# Altium footprint library 新主控制.PcbLib: 56 footprints (part 2 of 4)
Each footprint in its own frame and in the unit in brackets; x right, y up, seen from the top. Pads: shape width x height; smd on the part's side, far side on the other; paste and mask are expansions set on the pad; w line width, h text height; cw(c..) or ccw(c..) is an arc to the next point about the centre after c.
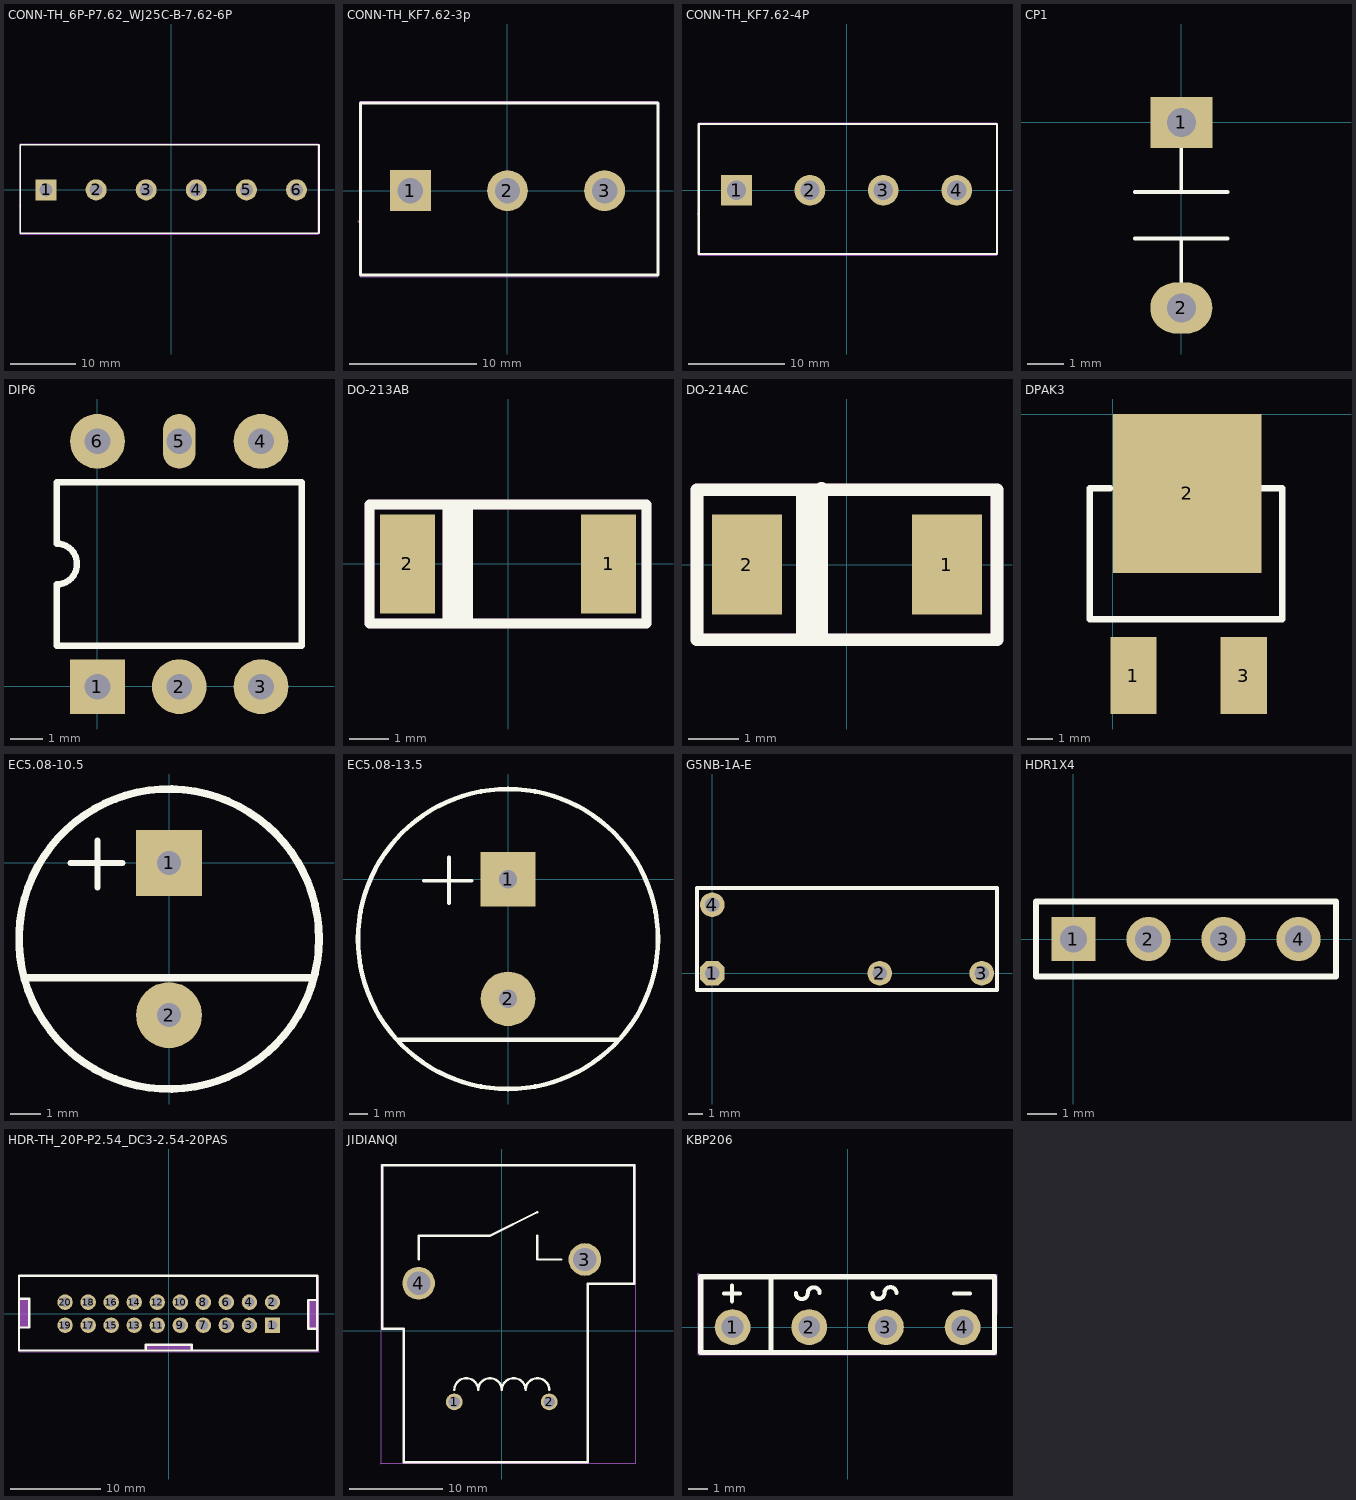
[diagram p1: the footprints below, top view; thin cyan lines are the x and y axes]

## CONN-TH_6P-P7.62_WJ25C-B-7.62-6P [mm]
height 0.7
pads (6):
  rect 3.21x3.2 hole 2 paste+0 mask+0.051: 1(-19.05,0)
  round 3.2 hole 2 paste+0 mask+0.051: 2(-11.43,0) 3(-3.81,0) 4(3.81,0) 5(11.43,0) 6(19.05,0)
Top Overlay:
  lines w0.254: -22.975,-6.623 22.479,-6.623 22.479,6.877 -22.975,6.877 -22.975,-6.623
Mechanical 15:
  drawing of 11 lines, arcs and shapes, not listed

## CONN-TH_KF7.62-3p [mm]
height 0.7
pads (3):
  rect 3.21x3.2 hole 2 paste+0 mask+0.051: 1(-7.62,0)
  round 3.2 hole 2 paste+0 mask+0.051: 2(0,0) 3(7.62,0)
Top Overlay:
  lines w0.254: -11.545,-6.623 11.811,-6.623 11.811,6.877 -11.545,6.877 -11.545,-6.623
Mechanical 15:
  region: -11.612,-2.432 -11.612,-2.407 -11.647,-2.372 -11.697,-2.372 -11.732,-2.407 -11.732,-2.432 -11.732,-2.457 -11.697,-2.492 -11.647,-2.492 -11.612,-2.457
  region: 8.52,0 8.52,0.118 8.459,0.347 8.34,0.553 8.173,0.72 7.967,0.839 7.739,0.9 7.502,0.9 7.273,0.839 7.067,0.72 6.9,0.553 6.781,0.347 6.72,0.118 6.72,0 6.72,-0.118 6.781,-0.347 6.9,-0.553 7.067,-0.72 7.273,-0.839 7.502,-0.9 7.739,-0.9 7.967,-0.839 8.173,-0.72 8.34,-0.553 8.459,-0.347 8.52,-0.118
  region: 0.9,0 0.9,0.118 0.839,0.347 0.72,0.553 0.553,0.72 0.347,0.839 0.119,0.9 -0.118,0.9 -0.347,0.839 -0.553,0.72 -0.72,0.553 -0.839,0.347 -0.9,0.118 -0.9,0 -0.9,-0.118 -0.839,-0.347 -0.72,-0.553 -0.553,-0.72 -0.347,-0.839 -0.118,-0.9 0.119,-0.9 0.347,-0.839 0.553,-0.72 0.72,-0.553 0.839,-0.347 0.9,-0.118
  region: -6.72,0 -6.72,0.118 -6.781,0.347 -6.9,0.553 -7.067,0.72 -7.273,0.839 -7.501,0.9 -7.738,0.9 -7.967,0.839 -8.173,0.72 -8.34,0.553 -8.459,0.347 -8.52,0.118 -8.52,0 -8.52,-0.118 -8.459,-0.347 -8.34,-0.553 -8.173,-0.72 -7.967,-0.839 -7.738,-0.9 -7.501,-0.9 -7.273,-0.839 -7.067,-0.72 -6.9,-0.553 -6.781,-0.347 -6.72,-0.118
  lines w0.051: -11.545,-6.75 -11.545,7.004 11.811,7.004 11.811,-6.75 -11.545,-6.75

## CONN-TH_KF7.62-4P [mm]
height 0.7
pads (4):
  rect 3.21x3.2 hole 2 paste+0 mask+0.051: 1(-11.43,0)
  round 3.2 hole 2 paste+0 mask+0.051: 2(-3.81,0) 3(3.81,0) 4(11.43,0)
Top Overlay:
  lines w0.254: -15.355,-6.623 15.621,-6.623 15.621,6.877 -15.355,6.877 -15.355,-6.623
Mechanical 15:
  region: -15.422,-2.432 -15.422,-2.407 -15.457,-2.372 -15.507,-2.372 -15.542,-2.407 -15.542,-2.432 -15.542,-2.457 -15.507,-2.492 -15.457,-2.492 -15.422,-2.457
  region: 12.33,0 12.33,0.118 12.269,0.347 12.15,0.553 11.983,0.72 11.777,0.839 11.549,0.9 11.312,0.9 11.083,0.839 10.877,0.72 10.71,0.553 10.591,0.347 10.53,0.118 10.53,0 10.53,-0.118 10.591,-0.347 10.71,-0.553 10.877,-0.72 11.083,-0.839 11.312,-0.9 11.549,-0.9 11.777,-0.839 11.983,-0.72 12.15,-0.553 12.269,-0.347 12.33,-0.118
  region: 4.71,0 4.71,0.118 4.649,0.347 4.53,0.553 4.363,0.72 4.157,0.839 3.929,0.9 3.692,0.9 3.463,0.839 3.257,0.72 3.09,0.553 2.971,0.347 2.91,0.118 2.91,0 2.91,-0.118 2.971,-0.347 3.09,-0.553 3.257,-0.72 3.463,-0.839 3.692,-0.9 3.929,-0.9 4.157,-0.839 4.363,-0.72 4.53,-0.553 4.649,-0.347 4.71,-0.118
  region: -2.91,0 -2.91,0.118 -2.971,0.347 -3.09,0.553 -3.257,0.72 -3.463,0.839 -3.691,0.9 -3.928,0.9 -4.157,0.839 -4.363,0.72 -4.53,0.553 -4.649,0.347 -4.71,0.118 -4.71,0 -4.71,-0.118 -4.649,-0.347 -4.53,-0.553 -4.363,-0.72 -4.157,-0.839 -3.928,-0.9 -3.691,-0.9 -3.463,-0.839 -3.257,-0.72 -3.09,-0.553 -2.971,-0.347 -2.91,-0.118
  region: -10.53,0 -10.53,0.118 -10.591,0.347 -10.71,0.553 -10.877,0.72 -11.083,0.839 -11.311,0.9 -11.548,0.9 -11.777,0.839 -11.983,0.72 -12.15,0.553 -12.269,0.347 -12.33,0.118 -12.33,0 -12.33,-0.118 -12.269,-0.347 -12.15,-0.553 -11.983,-0.72 -11.777,-0.839 -11.548,-0.9 -11.311,-0.9 -11.083,-0.839 -10.877,-0.72 -10.71,-0.553 -10.591,-0.347 -10.53,-0.118
  lines w0.051: -15.355,-6.75 -15.355,7.004 15.621,7.004 15.621,-6.75 -15.355,-6.75

## CP1 [mm]
height 0.7
pads (2):
  rect 1.7x1.397 hole 0.8: 1(0,0)
  oval 1.7x1.397 hole 0.8: 2(0,-5.08)
Top Overlay:
  lines w0.102: -1.27,-3.175 1.27,-3.175 ; -1.27,-1.905 1.27,-1.905 ; 0,-5.08 0,-3.175 ; 0,-1.905 0,0

## dianjiedianrong [mm]

## DIP6 [mm]
height 0.7
pads (6):
  rect 1.7x1.7 hole 0.8: 1(0.009,-0.006)
  round 1.7 hole 0.8: 2(2.549,-0.006) 3(5.089,-0.006) 4(5.089,7.614) 6(0.009,7.614)
  oval 1.016x1.7 hole 0.8: 5(2.549,7.614)
Top Overlay:
  lines w0.2: -1.261,1.264 -1.261,3.169 ccw(c-1.261,3.804) -1.261,4.439 -1.261,6.344 6.359,6.344 6.359,1.264 -1.261,1.264

## DO-213AB [mm]
height 0.7
pads (2):
  rect 1.4x2.5 smd: 1(2.54,0) 2(-2.54,0)
Top Overlay:
  rectangle: -1.524,-1.5 -1.016,1.5
Top Overlay keep-out:
  lines w0.254: -1.524,-1.5 -1.524,1.5 ; -1.016,-1.5 -1.016,1.5 ; -3.5,-1.5 3.5,-1.5 3.5,1.5 -3.5,1.5 -3.5,-1.5

## DO-214AC [mm]
height 0.7
pads (2):
  rect 1.4x2 smd: 1(2,0) 2(-2,0)
Top Overlay:
  rectangle: -1.024,-1.477 -0.516,1.523
Top Overlay keep-out:
  lines w0.254: -3,-1.5 -3,1.5 3,1.5 3,-1.5 -3,-1.5 ; -0.508,-1.476 -0.508,1.524 -0.508,-1.476

## DPAK3 [mm]
height 0.7
pads (3):
  rect 1.8x3 smd: 1(0.8,-10.2) 3(5.1,-10.2)
  rect 5.8x6.2 smd: 2(2.9,-3.1)
Top Overlay:
  lines w0.254: -0.1,-2.9 -0.9,-2.9 -0.9,-8 6.6,-8 6.6,-2.9 5.8,-2.9

## EC5.08-10.5 [mm]
pads (2):
  rect 2.2x2.2 hole 0.8: 1(0,0)
  round 2.2 hole 0.8: 2(0,-5.08)
Top Overlay:
  circle w0.254: c0,-2.54 r5.004
  lines w0.203: -3.277,0 -1.549,0 ; -2.388,-0.813 -2.388,0.737
  lines w0.254: -4.775,-3.835 4.775,-3.835

## EC5.08-13.5 [mm]
height 0.7
pads (2):
  rect 3x3 hole 1: 1(0,0)
  round 3 hole 1: 2(0,-6.58)
Top Overlay:
  circle w0.254: c0,-3.29 r8.25
  lines w0.203: -4.616,-0.08 -2,-0.08 ; -3.25,-1.33 -3.25,1.21
  lines w0.254: -6,-8.83 6,-8.83

## G5NB-1A-E [mm]
height 0.7
pads (4):
  oct 1.7x1.7 hole 1: 1(0,0)
  round 1.7 hole 1: 2(11.5,0) 3(18.5,0) 4(0,4.7)
Top Overlay:
  lines w0.254: -1.05,-1.15 -1.05,5.85 19.55,5.85 19.55,-1.15 -1.05,-1.15

## HDR1X4 [mm]
height 0.7
pads (4):
  rect 1.5x1.5 hole 0.9: 1(0,0)
  round 1.5 hole 0.9: 2(2.54,0) 3(5.08,0) 4(7.62,0)
Top Overlay:
  lines w0.2: -1.27,-1.27 8.89,-1.27 8.89,1.27 -1.27,1.27 -1.27,-1.27

## HDR-TH_20P-P2.54_DC3-2.54-20PAS [mm]
height 0.7
pads (20):
  rect 1.7x1.7 hole 1.1 paste+0 mask+0.051: 1(11.43,-1.27)
  round 1.7 hole 1.1 paste+0 mask+0.051: 2(11.43,1.27) 3(8.89,-1.27) 4(8.89,1.27) 5(6.35,-1.27) 6(6.35,1.27) 7(3.81,-1.27) 8(3.81,1.27) 9(1.27,-1.27) 10(1.27,1.27) 11(-1.27,-1.27) 12(-1.27,1.27) 13(-3.81,-1.27) 14(-3.81,1.27) 15(-6.35,-1.27) 16(-6.35,1.27) 17(-8.89,-1.27) 18(-8.89,1.27) 19(-11.43,-1.27) 20(-11.43,1.27)
Top Overlay:
  lines w0.254: -16.383,-1.524 -15.367,-1.524 -15.367,1.143 -15.367,1.651 -16.383,1.651 ; -2.54,-3.937 -2.54,-3.429 2.54,-3.429 2.54,-4.064 ; 16.383,-1.651 15.367,-1.651 15.367,-1.143 15.367,1.524 16.383,1.524 ; -16.51,-4.064 16.383,-4.064 16.383,4.191 -16.51,4.191 -16.51,-4.064
Mechanical 6:
  region: 16.383,-1.651 15.367,-1.651 15.367,1.524 16.383,1.524
  region: -16.383,1.651 -15.367,1.651 -15.367,-1.524 -16.383,-1.524
  region: -2.54,-3.937 -2.54,-3.429 2.54,-3.429 2.54,-3.937
Mechanical 15:
  region: 16.56,-4.2 16.56,-4.175 16.525,-4.14 16.475,-4.14 16.44,-4.175 16.44,-4.2 16.44,-4.225 16.475,-4.26 16.525,-4.26 16.56,-4.225
  region: 11.11,1.59 11.75,1.59 11.75,0.95 11.11,0.95
  region: 11.11,-0.95 11.75,-0.95 11.75,-1.59 11.11,-1.59
  region: 8.57,1.59 9.21,1.59 9.21,0.95 8.57,0.95
  region: 8.57,-0.95 9.21,-0.95 9.21,-1.59 8.57,-1.59
  region: 6.03,1.59 6.67,1.59 6.67,0.95 6.03,0.95
  region: 6.03,-0.95 6.67,-0.95 6.67,-1.59 6.03,-1.59
  region: 3.49,1.59 4.13,1.59 4.13,0.95 3.49,0.95
  region: 3.49,-0.95 4.13,-0.95 4.13,-1.59 3.49,-1.59
  region: 0.95,1.59 1.59,1.59 1.59,0.95 0.95,0.95
  region: 0.95,-0.95 1.59,-0.95 1.59,-1.59 0.95,-1.59
  region: -1.59,1.59 -0.95,1.59 -0.95,0.95 -1.59,0.95
  region: -1.59,-0.95 -0.95,-0.95 -0.95,-1.59 -1.59,-1.59
  region: -4.13,1.59 -3.49,1.59 -3.49,0.95 -4.13,0.95
  region: -4.13,-0.95 -3.49,-0.95 -3.49,-1.59 -4.13,-1.59
  region: -6.67,1.59 -6.03,1.59 -6.03,0.95 -6.67,0.95
  region: -6.67,-0.95 -6.03,-0.95 -6.03,-1.59 -6.67,-1.59
  region: -9.21,1.59 -8.57,1.59 -8.57,0.95 -9.21,0.95
  region: -9.21,-0.95 -8.57,-0.95 -8.57,-1.59 -9.21,-1.59
  region: -11.75,1.59 -11.11,1.59 -11.11,0.95 -11.75,0.95
  region: -11.75,-0.95 -11.11,-0.95 -11.11,-1.59 -11.75,-1.59
  lines w0.051: -16.5,-4.2 -16.5,4.2 16.5,4.2 16.5,-4.2 -16.5,-4.2

## JIDIANQI [mm]
height 0.7
pads (4):
  round 1.8 hole 1.2: 1(-5.08,-7.62) 2(5.08,-7.62)
  round 3.5 hole 2.5: 3(8.9,7.62) 4(-8.9,5.08)
Top Overlay:
  lines w0.254: -8.88,7.62 -8.88,10.16 -1.26,10.16 3.82,12.7 ; -5.07,-6.35 cw(c-3.8,-6.35) -2.53,-6.35 cw(c-1.26,-6.35) 0.01,-6.35 cw(c1.28,-6.35) 2.55,-6.35 cw(c3.82,-6.35) 5.09,-6.35 ; 3.82,10.16 3.82,7.62 6.36,7.62 ; -12.8,0.22 -10.5,0.22 -10.5,-14.08 9.2,-14.08 9.2,5.019 14.2,5.019 14.2,17.719 -12.8,17.719 -12.8,0.22
Mechanical 15:
  region: -12.867,-14.207 -12.868,-14.183 -12.903,-14.148 -12.952,-14.148 -12.987,-14.183 -12.987,-14.208 -12.987,-14.232 -12.952,-14.268 -12.903,-14.268 -12.867,-14.232
  region: 5.58,-7.62 5.58,-7.521 5.504,-7.337 5.363,-7.196 5.179,-7.12 4.98,-7.12 4.797,-7.196 4.656,-7.337 4.58,-7.521 4.58,-7.62 4.58,-7.72 4.656,-7.903 4.797,-8.044 4.98,-8.12 5.179,-8.12 5.363,-8.044 5.504,-7.903 5.58,-7.719
  region: -4.58,-7.62 -4.58,-7.521 -4.656,-7.337 -4.797,-7.196 -4.981,-7.12 -5.18,-7.12 -5.363,-7.196 -5.504,-7.337 -5.58,-7.521 -5.58,-7.62 -5.58,-7.72 -5.504,-7.903 -5.363,-8.044 -5.18,-8.12 -4.981,-8.12 -4.797,-8.044 -4.656,-7.903 -4.58,-7.719
  region: -7.75,5.08 -7.75,5.231 -7.828,5.524 -7.98,5.786 -8.194,6 -8.456,6.152 -8.749,6.23 -9.051,6.23 -9.344,6.152 -9.606,6 -9.82,5.786 -9.972,5.524 -10.05,5.231 -10.05,5.08 -10.05,4.929 -9.972,4.636 -9.82,4.374 -9.606,4.16 -9.344,4.008 -9.051,3.93 -8.749,3.93 -8.456,4.008 -8.194,4.16 -7.98,4.374 -7.828,4.636 -7.75,4.929
  region: 10.05,7.62 10.05,7.771 9.971,8.064 9.82,8.326 9.606,8.54 9.344,8.692 9.051,8.77 8.748,8.77 8.456,8.692 8.194,8.54 7.98,8.326 7.828,8.064 7.75,7.771 7.75,7.62 7.75,7.469 7.828,7.176 7.98,6.914 8.194,6.7 8.456,6.548 8.748,6.47 9.051,6.47 9.344,6.548 9.606,6.7 9.82,6.914 9.971,7.176 10.05,7.469
  lines w0.051: -12.927,-14.207 -12.927,17.846 14.327,17.846 14.327,-14.207 -12.927,-14.207

## KBP206 [mm]
height 0.7
pads (4):
  round 1.8 hole 1.1 paste+0 mask+0.051: 1(-5.775,0) 2(-1.925,0) 3(1.925,0) 4(5.775,0)
Top Overlay:
  lines w0.203: -6.2,1.7 -5.4,1.7 ; -5.8,1.3 -5.8,2.1 ; -2.601,1.709 ccw(c-2.3,1.709) -1.999,1.709 cw(c-1.699,1.696) -1.399,1.709 ; 1.25,1.709 ccw(c1.549,1.722) 1.849,1.709 cw(c2.15,1.709) 2.451,1.709 ; 5.35,1.7 6.15,1.7
  lines w0.254: -3.85,-1.27 -3.85,2.53 ; -7.375,-1.27 7.375,-1.27 7.375,2.53 -7.375,2.53 -7.375,-1.27
Mechanical 15:
  region: -7.442,2.657 -7.442,2.682 -7.477,2.717 -7.527,2.717 -7.562,2.682 -7.562,2.657 -7.562,2.632 -7.527,2.597 -7.477,2.597 -7.442,2.632
  region: 2.375,0 2.375,0.089 2.307,0.255 2.18,0.381 2.015,0.45 1.836,0.45 1.67,0.381 1.544,0.255 1.475,0.089 1.475,0 1.475,-0.09 1.544,-0.255 1.67,-0.382 1.836,-0.45 2.015,-0.45 2.18,-0.382 2.307,-0.255 2.375,-0.09
  region: 6.225,0 6.225,0.089 6.156,0.255 6.03,0.381 5.865,0.45 5.685,0.45 5.52,0.381 5.394,0.255 5.325,0.089 5.325,0 5.325,-0.09 5.394,-0.255 5.52,-0.382 5.685,-0.45 5.865,-0.45 6.03,-0.382 6.156,-0.255 6.225,-0.09
  region: -1.475,0 -1.475,0.089 -1.544,0.255 -1.67,0.381 -1.836,0.45 -2.015,0.45 -2.18,0.381 -2.307,0.255 -2.375,0.089 -2.375,0 -2.375,-0.09 -2.307,-0.255 -2.18,-0.382 -2.015,-0.45 -1.836,-0.45 -1.67,-0.382 -1.544,-0.255 -1.475,-0.09
  region: -5.325,0 -5.325,0.089 -5.393,0.255 -5.52,0.381 -5.685,0.45 -5.864,0.45 -6.03,0.381 -6.156,0.255 -6.225,0.089 -6.225,0 -6.225,-0.09 -6.156,-0.255 -6.03,-0.382 -5.864,-0.45 -5.685,-0.45 -5.52,-0.382 -5.393,-0.255 -5.325,-0.09
  lines w0.051: -7.502,-1.397 -7.502,2.657 7.502,2.657 7.502,-1.397 -7.502,-1.397